# EAGLE library part BOOST-CONVERTER-TPS61023 (library FlashPCB_ICs)
TPS61023 - TPS61023 3.7-A Boost Converter with 0.5-V Ultra-low Input Voltage Technical Specifications: Input Voltage range: 0.5 - 5.5v Output Voltage range: 2.2 - 5.5v Component Search: TPS61023DRLR <https://www.flashpcb.com/components> Datasheet: TPS61023 3.7-A Boost Converter with 0.5-V Ultra-low Input Voltage <https://www.ti.com/lit/ds/symlink/tps61023.pdf?HQS=dis-dk-null-digikeymode-dsf-pf-null-wwe&ts=1685718553608&ref_url=https%253A%252F%252Fwww.ti.com%252Fgeneral%252Fdocs%252Fsuppproductinfo.tsp%253FdistId%253D10%2526gotoUrl%253Dhttps%253A%252F%252Fwww.ti.com%252Flit%252Fgpn%252Ftps61023>
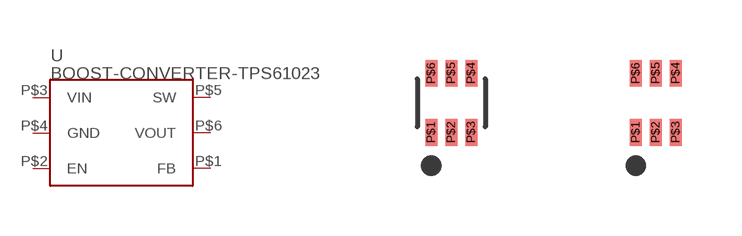
[diagram p26: symbol with the pads of SOT-563; footprints SOT-563, SOT-563_NOSILK]

Designator prefix U

## BOOST-CONVERTER-TPS61023DRL  [SOT-563]
P$1  FB
P$2  EN
P$3  VIN
P$4  GND
P$5  SW
P$6  VOUT

## BOOST-CONVERTER-TPS61023DRL_NOSILK  [SOT-563_NOSILK]
Pads as for SOT-563

## Footprint SOT-563 (pad centres in mm)
smd 0.3 x 0.67: P$1 -0.5,-0.74; P$2 0,-0.74; P$3 0.5,-0.74; P$4 0.5,0.74; P$5 0,0.74; P$6 -0.5,0.74

## Footprint SOT-563_NOSILK (pad centres in mm)
smd 0.3 x 0.67: P$1 -0.5,-0.74; P$2 0,-0.74; P$3 0.5,-0.74; P$4 0.5,0.74; P$5 0,0.74; P$6 -0.5,0.74